# EAGLE library part MC1540 (library dec-con)
OP AMP
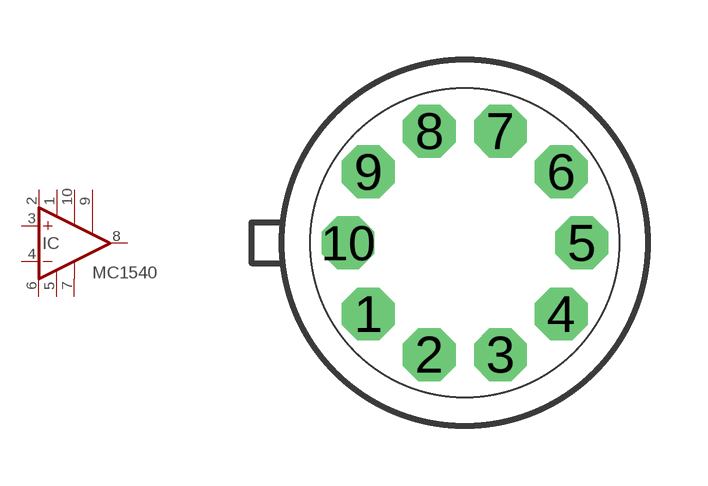
[diagram p10: symbol with the pads of TO100; footprint TO100]

Designator prefix IC

## MC1540  [TO100]
1  CEXTA  pas
2  V+  pwr
3  +IN  in
4  -IN  in
5  V-  pwr
6  SLICE
7  GND  pwr
8  OUT  out
9  ISTROBE  pas
10  CEXTB  pas

## Footprint TO100 (pad centres in mm)
Metal Can Package
drill 0.813 octagon: 1 -2.413,-1.778; 2 -0.889,-2.794; 3 0.889,-2.794; 4 2.413,-1.778; 5 2.921,0; 6 2.413,1.778; 7 0.889,2.794; 8 -0.889,2.794; 9 -2.413,1.778; 10 -2.921,0